# Altium footprint library BGA320C50P21X21_1100X1100X120.PcbLib: 1 footprints
Each footprint in its own frame and in the unit in brackets; x right, y up, seen from the top. Pads: shape width x height; smd on the part's side, far side on the other; paste and mask are expansions set on the pad; w line width, h text height; cw(c..) or ccw(c..) is an arc to the next point about the centre after c.
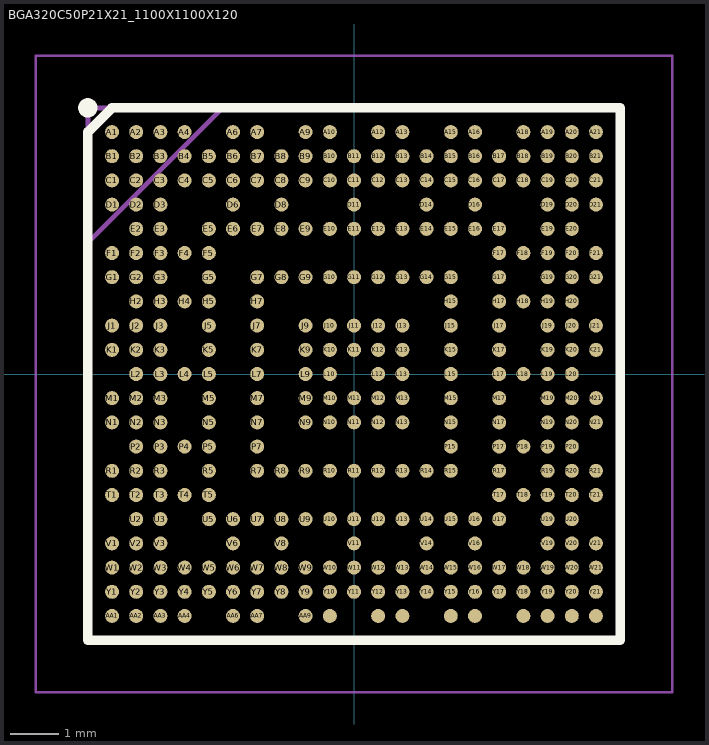
[diagram p0: the footprint, top view; thin cyan lines are the x and y axes]

## BGA320C50P21X21_1100X1100X120 [mm]
pads (320):
  round 0.29 smd: A1(-5,5) A2(-4.5,5) A3(-4,5) A4(-3.5,5) A6(-2.5,5) A7(-2,5) A9(-1,5) A10(-0.5,5) A12(0.5,5) A13(1,5) A15(2,5) A16(2.5,5) A18(3.5,5) A19(4,5) A20(4.5,5) A21(5,5) AA1(-5,-5) AA2(-4.5,-5) AA3(-4,-5) AA4(-3.5,-5) AA6(-2.5,-5) AA7(-2,-5) AA9(-1,-5) AA10(-0.5,-5) AA12(0.5,-5) AA13(1,-5) AA15(2,-5) AA16(2.5,-5) AA18(3.5,-5) AA19(4,-5) AA20(4.5,-5) AA21(5,-5) B1(-5,4.5) B2(-4.5,4.5) B3(-4,4.5) B4(-3.5,4.5) B5(-3,4.5) B6(-2.5,4.5) B7(-2,4.5) B8(-1.5,4.5) B9(-1,4.5) B10(-0.5,4.5) B11(0,4.5) B12(0.5,4.5) B13(1,4.5) B14(1.5,4.5) B15(2,4.5) B16(2.5,4.5) B17(3,4.5) B18(3.5,4.5) B19(4,4.5) B20(4.5,4.5) B21(5,4.5) C1(-5,4) C2(-4.5,4) C3(-4,4) C4(-3.5,4) C5(-3,4) C6(-2.5,4) C7(-2,4) C8(-1.5,4) C9(-1,4) C10(-0.5,4) C11(0,4) C12(0.5,4) C13(1,4) C14(1.5,4) C15(2,4) C16(2.5,4) C17(3,4) C18(3.5,4) C19(4,4) C20(4.5,4) C21(5,4) D1(-5,3.5) D2(-4.5,3.5) D3(-4,3.5) D6(-2.5,3.5) D8(-1.5,3.5) D11(0,3.5) D14(1.5,3.5) D16(2.5,3.5) D19(4,3.5) D20(4.5,3.5) D21(5,3.5) E2(-4.5,3) E3(-4,3) E5(-3,3) E6(-2.5,3) E7(-2,3) E8(-1.5,3) E9(-1,3) E10(-0.5,3) E11(0,3) E12(0.5,3) E13(1,3) E14(1.5,3) E15(2,3) E16(2.5,3) E17(3,3) E19(4,3) E20(4.5,3) F1(-5,2.5) F2(-4.5,2.5) F3(-4,2.5) F4(-3.5,2.5) F5(-3,2.5) F17(3,2.5) F18(3.5,2.5) F19(4,2.5) F20(4.5,2.5) F21(5,2.5) G1(-5,2) G2(-4.5,2) G3(-4,2) G5(-3,2) G7(-2,2) G8(-1.5,2) G9(-1,2) G10(-0.5,2) G11(0,2) G12(0.5,2) G13(1,2) G14(1.5,2) G15(2,2) G17(3,2) G19(4,2) G20(4.5,2) G21(5,2) H2(-4.5,1.5) H3(-4,1.5) H4(-3.5,1.5) H5(-3,1.5) H7(-2,1.5) H15(2,1.5) H17(3,1.5) H18(3.5,1.5) H19(4,1.5) H20(4.5,1.5) J1(-5,1) J2(-4.5,1) J3(-4,1) J5(-3,1) J7(-2,1) J9(-1,1) J10(-0.5,1) J11(0,1) J12(0.5,1) J13(1,1) J15(2,1) J17(3,1) J19(4,1) J20(4.5,1) J21(5,1) K1(-5,0.5) K2(-4.5,0.5) K3(-4,0.5) K5(-3,0.5) K7(-2,0.5) K9(-1,0.5) K10(-0.5,0.5) K11(0,0.5) K12(0.5,0.5) K13(1,0.5) K15(2,0.5) K17(3,0.5) K19(4,0.5) K20(4.5,0.5) K21(5,0.5) L2(-4.5,0) L3(-4,0) L4(-3.5,0) L5(-3,0) L7(-2,0) L9(-1,0) L10(-0.5,0) L12(0.5,0) L13(1,0) L15(2,0) L17(3,0) L18(3.5,0) L19(4,0) L20(4.5,0) M1(-5,-0.5) M2(-4.5,-0.5) M3(-4,-0.5) M5(-3,-0.5) M7(-2,-0.5) M9(-1,-0.5) M10(-0.5,-0.5) M11(0,-0.5) M12(0.5,-0.5) M13(1,-0.5) M15(2,-0.5) M17(3,-0.5) M19(4,-0.5) M20(4.5,-0.5) M21(5,-0.5) N1(-5,-1) N2(-4.5,-1) N3(-4,-1) N5(-3,-1) N7(-2,-1) N9(-1,-1) N10(-0.5,-1) N11(0,-1) N12(0.5,-1) N13(1,-1) N15(2,-1) N17(3,-1) N19(4,-1) N20(4.5,-1) N21(5,-1) P2(-4.5,-1.5) P3(-4,-1.5) P4(-3.5,-1.5) P5(-3,-1.5) P7(-2,-1.5) P15(2,-1.5) P17(3,-1.5) P18(3.5,-1.5) P19(4,-1.5) P20(4.5,-1.5) R1(-5,-2) R2(-4.5,-2) R3(-4,-2) R5(-3,-2) R7(-2,-2) R8(-1.5,-2) R9(-1,-2) R10(-0.5,-2) R11(0,-2) R12(0.5,-2) R13(1,-2) R14(1.5,-2) R15(2,-2) R17(3,-2) R19(4,-2) R20(4.5,-2) R21(5,-2) T1(-5,-2.5) T2(-4.5,-2.5) T3(-4,-2.5) T4(-3.5,-2.5) T5(-3,-2.5) T17(3,-2.5) T18(3.5,-2.5) T19(4,-2.5) T20(4.5,-2.5) T21(5,-2.5) U2(-4.5,-3) U3(-4,-3) U5(-3,-3) U6(-2.5,-3) U7(-2,-3) U8(-1.5,-3) U9(-1,-3) U10(-0.5,-3) U11(0,-3) U12(0.5,-3) U13(1,-3) U14(1.5,-3) U15(2,-3) U16(2.5,-3) U17(3,-3) U19(4,-3) U20(4.5,-3) V1(-5,-3.5) V2(-4.5,-3.5) V3(-4,-3.5) V6(-2.5,-3.5) V8(-1.5,-3.5) V11(0,-3.5) V14(1.5,-3.5) V16(2.5,-3.5) V19(4,-3.5) V20(4.5,-3.5) V21(5,-3.5) W1(-5,-4) W2(-4.5,-4) W3(-4,-4) W4(-3.5,-4) W5(-3,-4) W6(-2.5,-4) W7(-2,-4) W8(-1.5,-4) W9(-1,-4) W10(-0.5,-4) W11(0,-4) W12(0.5,-4) W13(1,-4) W14(1.5,-4) W15(2,-4) W16(2.5,-4) W17(3,-4) W18(3.5,-4) W19(4,-4) W20(4.5,-4) W21(5,-4) Y1(-5,-4.5) Y2(-4.5,-4.5) Y3(-4,-4.5) Y4(-3.5,-4.5) Y5(-3,-4.5) Y6(-2.5,-4.5) Y7(-2,-4.5) Y8(-1.5,-4.5) Y9(-1,-4.5) Y10(-0.5,-4.5) Y11(0,-4.5) Y12(0.5,-4.5) Y13(1,-4.5) Y14(1.5,-4.5) Y15(2,-4.5) Y16(2.5,-4.5) Y17(3,-4.5) Y18(3.5,-4.5) Y19(4,-4.5) Y20(4.5,-4.5) Y21(5,-4.5)
Top Overlay:
  circle w0.2: c-5.5,5.5 r0.1
  lines w0.2: -5.5,-5.5 5.5,-5.5 5.5,5.5 -5,5.5 -5.5,5 -5.5,-5.5
Mechanical 15:
  lines w0.1: -5.5,2.712 -2.712,5.5 ; -5.5,-5.5 5.5,-5.5 5.5,5.5 -5.5,5.5 -5.5,-5.5
Mechanical 20:
  lines w0.05: -6.575,-6.575 6.575,-6.575 6.575,6.575 -6.575,6.575 -6.575,-6.575